# EAGLE library part OPAMP_DUAL (library microbuilder)
Dual Op-Amp MSOP8 - 0.65mm Pitch Manuf. ID Slew Rate Gain Bandwidth Prod. -3dB Bandwidth Current Input Bias Voltage Input Offset Supply - Single Supply - Dual Digikey Mouser EL5236IYZ-T7 128V/µs 300MHz 250MHz 6.5µA 100µV 5-12V +/-2.5-6V EL5236IYZ-T7TR-ND --
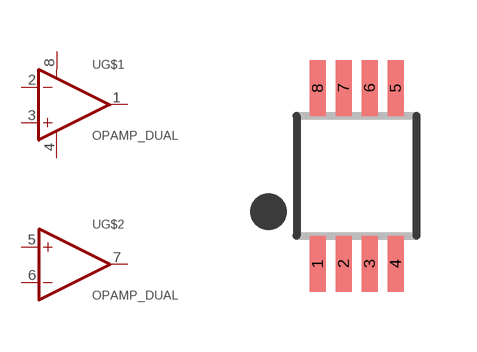
[diagram p146: symbol with the pads of MSOP8_0.65MM; footprint MSOP8_0.65MM]

Designator prefix U; gates G$1=OPAMP+- G$2=OPAMP

## OPAMP_DUALMSOP8_65  [MSOP8_0.65MM]
1  G$1:OUT  out
2  G$1:-IN  in
3  G$1:+IN  in
4  G$1:V-  pwr
5  G$2:+IN  in
6  G$2:-IN  in
7  G$2:OUT  out
8  G$1:V+  pwr

## Footprint MSOP8_0.65MM (pad centres in mm)
Source: http://www.intersil.com/data/fn/fn7833.pdf
smd 0.4 x 1.4: 1 -0.975,-2.2; 2 -0.325,-2.2; 3 0.325,-2.2; 4 0.975,-2.2; 5 0.975,2.2; 6 0.325,2.2; 7 -0.325,2.2; 8 -0.975,2.2